# EAGLE library part SHT3X-DIS (library SamacSys_Parts)
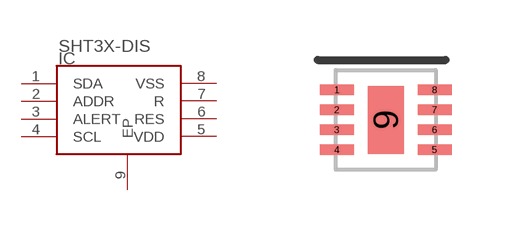
[diagram p12: symbol with the pads of SHT3X-DIS; footprint SHT3X-DIS]

Designator prefix IC

## SHT3X-DIS  [SHT3X-DIS]
1  SDA
2  ADDR
3  ALERT
4  SCL
5  VDD  pwr
6  RES
7  R
8  VSS
9  EP  pwr

## Footprint SHT3X-DIS (pad centres in mm)
smd 0.85 x 0.254: 1 -1.225,0.75; 2 -1.225,0.25; 3 -1.225,-0.25; 4 -1.225,-0.75; 5 1.225,-0.75; 6 1.225,-0.25; 7 1.225,0.25; 8 1.225,0.75
smd 0.9 x 1.7: 9 0,0